# EAGLE library part 40X1PIN-2.0MM-F-HEADER (library Itead-misc)
CON003
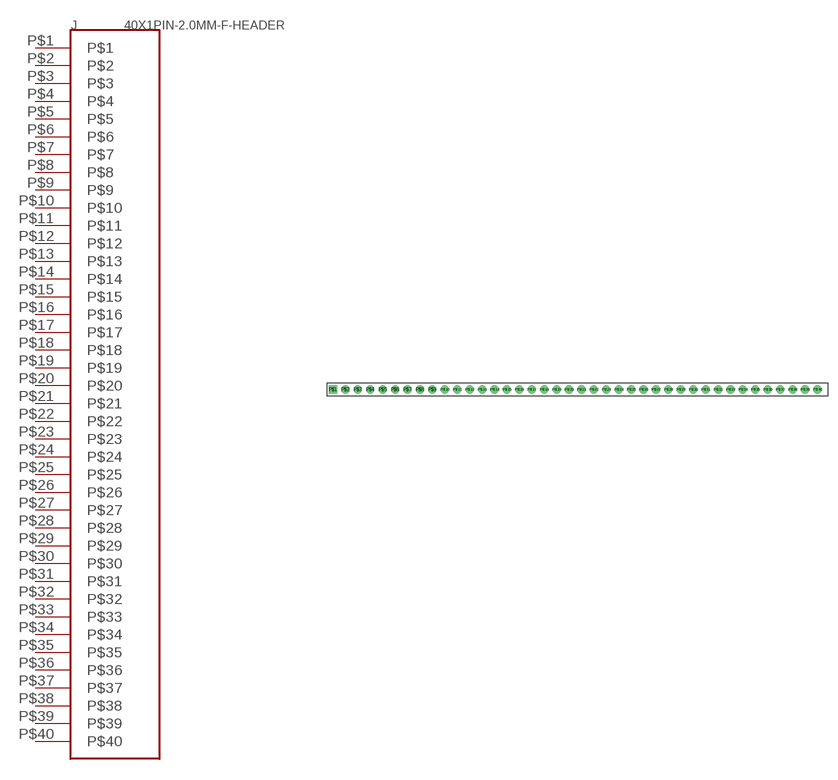
[diagram p1: symbol with the pads of 40X1-2.0MM; footprint 40X1-2.0MM]

Designator prefix J

## 40X1PIN-2.0MM-F-HEADER  [40X1-2.0MM]
P$1  P$1
P$2  P$2
P$3  P$3
P$4  P$4
P$5  P$5
P$6  P$6
P$7  P$7
P$8  P$8
P$9  P$9
P$10  P$10
P$11  P$11
P$12  P$12
P$13  P$13
P$14  P$14
P$15  P$15
P$16  P$16
P$17  P$17
P$18  P$18
P$19  P$19
P$20  P$20
P$21  P$21
P$22  P$22
P$23  P$23
P$24  P$24
P$25  P$25
P$26  P$26
P$27  P$27
P$28  P$28
P$29  P$29
P$30  P$30
P$31  P$31
P$32  P$32
P$33  P$33
P$34  P$34
P$35  P$35
P$36  P$36
P$37  P$37
P$38  P$38
P$39  P$39
P$40  P$40

## Footprint 40X1-2.0MM (pad centres in mm)
drill 0.8 square: P$1 0,0
drill 0.8 round: P$2 2,0; P$3 4,0; P$4 6,0; P$5 8,0; P$6 10,0; P$7 12,0; P$8 14,0; P$9 16,0; P$10 18,0; P$11 20,0; P$12 22,0; P$13 24,0; P$14 26,0; P$15 28,0; P$16 30,0; P$17 32,0; P$18 34,0; P$19 36,0; P$20 38,0; P$21 40,0; P$22 42,0; P$23 44,0; P$24 46,0; P$25 48,0; P$26 50,0; P$27 52,0; P$28 54,0; P$29 56,0; P$30 58,0; P$31 60,0; P$32 62,0; P$33 64,0; P$34 66,0; P$35 68,0; P$36 70,0; P$37 72,0; P$38 74,0; P$39 76,0; P$40 78,0